# Altium schematic symbol library Ferrite Bead.SchLib: 2 symbols
Pins are listed as number, name and electrical type; pins without a type are passive.

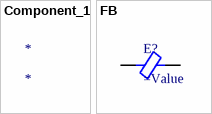
[diagram p0: symbols Component_1 to FB]

## Component_1
designator *

## FB
designator E?
=Description
pins: 1, 2